# Altium integrated library ATSAMD51J19A-MU.IntLib: 1 symbol
Pins are listed as number, name and electrical type; pins without a type are passive.

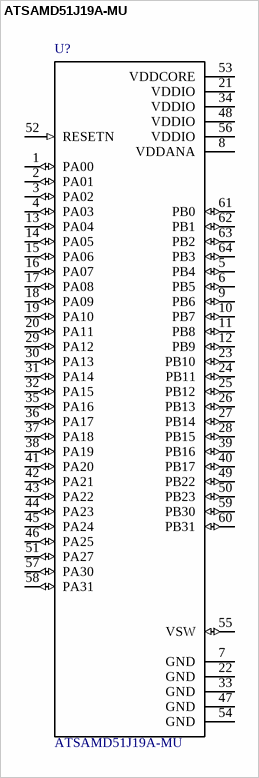
[diagram p0: symbol ATSAMD51J19A-MU]

## ATSAMD51J19A-MU
designator U?
/ MCU 32-bit ARM Cortex M4F RISC 512KB Flash 3.3V 64-Pin VQFN EP Tray /; MF: Microchip; Package: VQFN-64 Microchip; Price: None; Availability: Unavailable; MP: ATSAMD51J19A-MU; SnapEDA_Link: https://www.snapeda.com/parts/ATSAMD51J19A-MU/Microchip/view-part/?ref=snap; Value: *
footprint *QFN50P900X900X100-65N
pins: 1 PA00 (io), 2 PA01 (io), 3 PA02 (io), 4 PA03 (io), 5 PB4 (io), 6 PB5 (io), 7 GND (power), 8 VDDANA (power), 9 PB6 (io), 10 PB7 (io), 11 PB8 (io), 12 PB9 (io), 13 PA04 (io), 14 PA05 (io), 15 PA06 (io), 16 PA07 (io), 17 PA08 (io), 18 PA09 (io), 19 PA10 (io), 20 PA11 (io), 21 VDDIO (power), 22 GND (power), 23 PB10 (io), 24 PB11 (io), 25 PB12 (io), 26 PB13 (io), 27 PB14 (io), 28 PB15 (io), 29 PA12 (io), 30 PA13 (io), 31 PA14 (io), 32 PA15 (io), 33 GND (power), 34 VDDIO (power), 35 PA16 (io), 36 PA17 (io), 37 PA18 (io), 38 PA19 (io), 39 PB16 (io), 40 PB17 (io), 41 PA20 (io), 42 PA21 (io), 43 PA22 (io), 44 PA23 (io), 45 PA24 (io), 46 PA25 (io), 47 GND (power), 48 VDDIO (power), 49 PB22 (io), 50 PB23 (io), 51 PA27 (io), 52 RESETN (in), 53 VDDCORE (power), 54 GND (power), 55 VSW (io), 56 VDDIO (power), 57 PA30 (io), 58 PA31 (io), 59 PB30 (io), 60 PB31 (io), 61 PB0 (io), 62 PB1 (io), 63 PB2 (io), 64 PB3 (io)